# Altium integrated library Resistor_SMD_0201.IntLib: 1 symbol
Pins are listed as number, name and electrical type; pins without a type are passive.

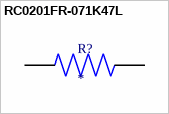
[diagram p0: symbol RC0201FR-071K47L]

## RC0201FR-071K47L
designator R?
1.47 kOhms Â±1% 0.05W, 1/20W Chip Resistor 0201 (0603 Metric) Moisture Resistant Thick Film; MF: Yageo; MP: RC0201FR-071K47L; SnapEDA_Link: https://www.snapeda.com/parts/RC0201FR-071K47L/Yageo/view-part/?ref=snap; Package: 0603 Rohm Semiconductor; Value: *; Check_prices: https://www.snapeda.com/parts/RC0201FR-071K47L/Yageo/view-part/?ref=eda
footprint RESC0603X26N
pins: 1, 2